# EAGLE library part MIC5393 (library LinnesLab-Power)
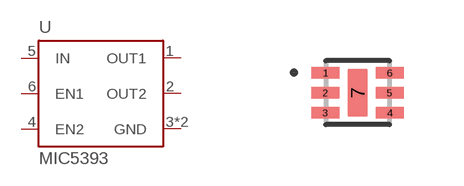
[diagram p6: symbol with the pads of 6-XTDFN(1.2X1.2); footprint 6-XTDFN(1.2X1.2)]

Designator prefix U

## MIC5393  [6-XTDFN(1.2X1.2)]
1  OUT1
2  OUT2
3  GND
4  EN2
5  IN
6  EN1
7  GND

## Footprint 6-XTDFN(1.2X1.2) (pad centres in mm)
smd 0.71 x 0.27: 1 -0.805,0.5; 2 -0.805,0; 3 -0.805,-0.5; 4 0.805,-0.5; 5 0.805,0; 6 0.805,0.5
smd 0.5 x 1.2: 7 0,0